# Altium schematic symbol library AD7302BRUZ.SchLib: 1 symbol
Pins are listed as number, name and electrical type; pins without a type are passive.

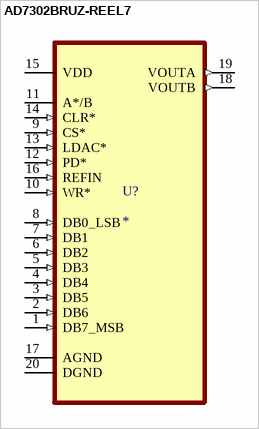
[diagram p0: symbol AD7302BRUZ-REEL7]

## AD7302BRUZ-REEL7
designator U?
8-Bit Digital-to-Analog Converters; MF: {'manufacturer': u'Analog Devices'}; MP: AD7302BRUZ-REEL7; Availability: Unavailable; Package: None; Price: None; Value: *
footprint SOP65P637X110-20N
pins: 1 DB7_MSB (in), 2 DB6 (in), 3 DB5 (in), 4 DB4 (in), 5 DB3 (in), 6 DB2 (in), 7 DB1 (in), 8 DB0_LSB (in), 9 CS* (in), 10 WR* (in), 11 A*/B, 12 PD* (in), 13 LDAC* (in), 14 CLR* (in), 15 VDD (power), 16 REFIN (in), 17 AGND, 18 VOUTB (out), 19 VOUTA (out), 20 DGND